# Altium integrated library Altium Database Library V2.IntLib: 412 symbols (part 4 of 18)

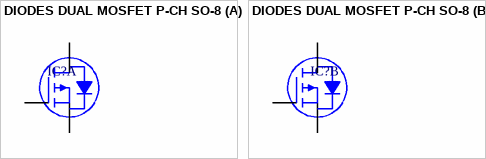
[diagram p69: symbol DIODES DUAL MOSFET P-CH SO-8]

## DIODES DUAL MOSFET P-CH SO-8
designator IC?
part A pins: 1 S1, 2 G1, 7 D1, 8 D1
part B pins: 3 S2, 4 G2, 5 D2, 6 D2


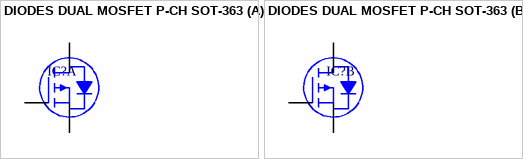
[diagram p70: symbol DIODES DUAL MOSFET P-CH SOT-363]

## DIODES DUAL MOSFET P-CH SOT-363
designator IC?
part A pins: 1 S1, 2 G1, 6 D1
part B pins: 3 D2, 4 S2, 5 G2


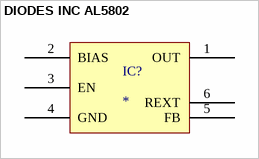
[diagram p71: symbol DIODES INC AL5802]

## DIODES INC AL5802
designator IC?
pins: 1 OUT, 2 BIAS, 3 EN, 4 GND, 5 FB, 6 REXT


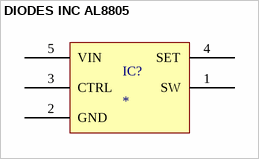
[diagram p72: symbol DIODES INC AL8805]

## DIODES INC AL8805
designator IC?
pins: 1 SW, 2 GND, 3 CTRL, 4 SET, 5 VIN


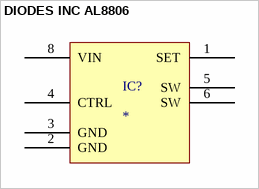
[diagram p73: symbol DIODES INC AL8806]

## DIODES INC AL8806
designator IC?
pins: 1 SET, 2 GND, 3 GND, 4 CTRL, 5 SW, 6 SW, 8 VIN


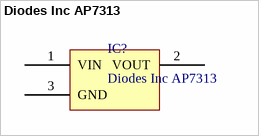
[diagram p74: symbol Diodes Inc AP7313]

## Diodes Inc AP7313
designator IC?
150mA Low quiescent current fast transient low drop out linear regulator
pins: 1 VIN, 2 VOUT, 3 GND


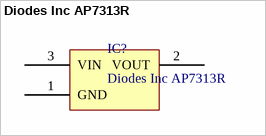
[diagram p75: symbol Diodes Inc AP7313R]

## Diodes Inc AP7313R
designator IC?
150mA Low quiescent current fast transient low drop out linear regulator
pins: 1 GND, 2 VOUT, 3 VIN


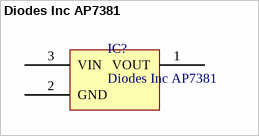
[diagram p76: symbol Diodes Inc AP7381]

## Diodes Inc AP7381
designator IC?
150mA Low quiescent current fast transient low drop out linear regulator
pins: 1 VOUT, 2 GND, 3 VIN


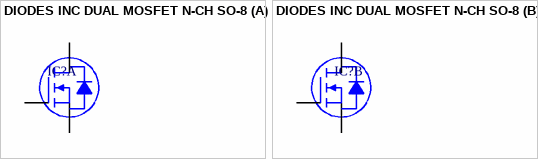
[diagram p77: symbol DIODES INC DUAL MOSFET N-CH SO-8]

## DIODES INC DUAL MOSFET N-CH SO-8
designator IC?
part A pins: 1 S1, 2 G1, 7 D1, 8 D1
part B pins: 3 S2, 4 G2, 5 D2, 6 D2


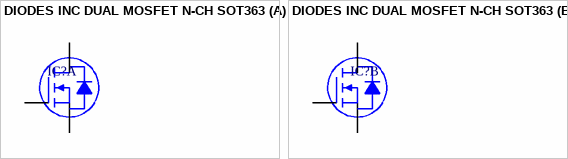
[diagram p78: symbol DIODES INC DUAL MOSFET N-CH SOT363]

## DIODES INC DUAL MOSFET N-CH SOT363
designator IC?
part A pins: 3 D1, 4 S1, 5 G1
part B pins: 1 S2, 2 G2, 6 D2


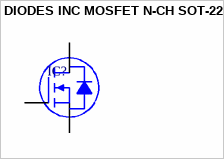
[diagram p79: symbol DIODES INC MOSFET N-CH SOT-223]

## DIODES INC MOSFET N-CH SOT-223
designator IC?
pins: 1 G, 2 D, 3 S, 4 D


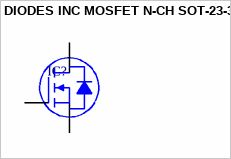
[diagram p80: symbol DIODES INC MOSFET N-CH SOT-23-3]

## DIODES INC MOSFET N-CH SOT-23-3
designator IC?
pins: 1 G, 2 S, 3 D


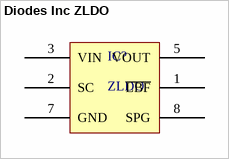
[diagram p81: symbol Diodes Inc ZLDO]

## Diodes Inc ZLDO
designator IC?, comment ZLDO
Diodes Inc 5.0 VOLT ULTRA LOW DROPOUT  REGULATOR
pins: 1 ~{LBF} "Low Battery Flag", 2 SC "Shutdown Control", 3 VIN, 5 VOUT "1uF or greater", 7 GND, 8 SPG "Shaping - 10pF to Vout"


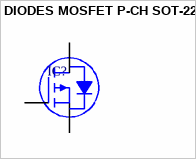
[diagram p82: symbol DIODES MOSFET P-CH SOT-223]

## DIODES MOSFET P-CH SOT-223
designator IC?
pins: 1 G, 2 D, 3 S, 4 D


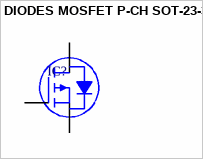
[diagram p83: symbol DIODES MOSFET P-CH SOT-23-3]

## DIODES MOSFET P-CH SOT-23-3
designator IC?
pins: 1 G, 2 S, 3 D


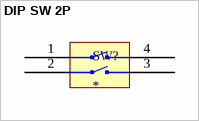
[diagram p84: symbol DIP SW 2P]

## DIP SW 2P
designator SW?
pins: 1 GND, 2 GND, 3 GND, 4 GND


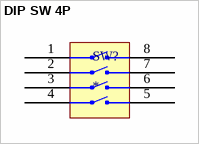
[diagram p85: symbol DIP SW 4P]

## DIP SW 4P
designator SW?
pins: 1 GND, 2 GND, 3 GND, 4 GND, 5, 6, 7, 8


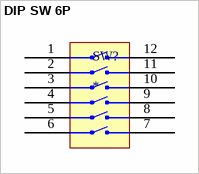
[diagram p86: symbol DIP SW 6P]

## DIP SW 6P
designator SW?
pins: 1 GND, 2 GND, 3 GND, 4 GND, 5, 6, 7, 8, 9, 10, 11, 12


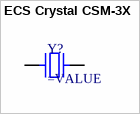
[diagram p87: symbol ECS Crystal CSM-3X]

## ECS Crystal CSM-3X
designator Y?
SMT Crystal
pins: 1, 2


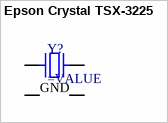
[diagram p88: symbol Epson Crystal TSX-3225]

## Epson Crystal TSX-3225
designator Y?
SMT Crystal
pins: 1, 2 GND, 3, 4 GND


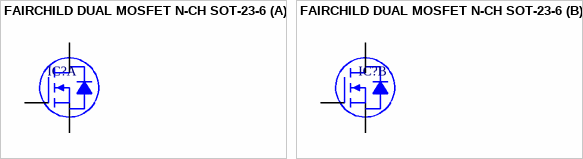
[diagram p89: symbol FAIRCHILD DUAL MOSFET N-CH SOT-23-6]

## FAIRCHILD DUAL MOSFET N-CH SOT-23-6
designator IC?
part A pins: 1 G1, 5 S1, 6 D1
part B pins: 2 S2, 3 G2, 4 D2


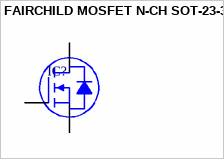
[diagram p90: symbol FAIRCHILD MOSFET N-CH SOT-23-3]

## FAIRCHILD MOSFET N-CH SOT-23-3
designator IC?
pins: 1 G, 2 S, 3 D


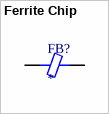
[diagram p91: symbol Ferrite Chip]

## Ferrite Chip
designator FB?
SMT Ferrite Chip
pins: 1, 2
